# EAGLE library part CC2592 (library Controller)
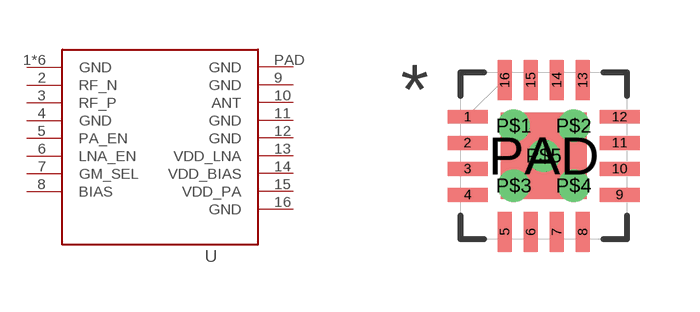
[diagram p5: symbol with the pads of QFN65P400X400X100-17N; footprint QFN65P400X400X100-17N]

Designator prefix U

## CC2592QF  [QFN65P400X400X100-17N]
1  GND  pwr
2  RF_N
3  RF_P
4  GND  pwr
5  PA_EN  in
6  LNA_EN  in
7  GM_SEL  in
8  BIAS  pas
9  GND  pwr
10  ANT
11  GND  pwr
12  GND  pwr
13  VDD_LNA  pwr
14  VDD_BIAS  pwr
15  VDD_PA  pwr
16  GND  pwr
P$1  GND  pwr
P$2  GND  pwr
P$3  GND  pwr
P$4  GND  pwr
P$5  GND  pwr
PAD  GND  pwr

## Footprint QFN65P400X400X100-17N (pad centres in mm)
This is the Device, Symbol and Footprint for the CC2592 RF Front End from Texas Instruments. (Webpage: http://www.ti.com/product/cc2592, Datasheet: http://www.ti.com/lit/ds/symlink/cc2592.pdf) Author: Dustin Richmond (10/16/2014) Reviwer 1: Reviwer 2:
smd 1 x 0.35: 1 -1.9,0.975; 2 -1.9,0.325; 3 -1.9,-0.325; 4 -1.9,-0.975; 9 1.9,-0.975; 10 1.9,-0.325; 11 1.9,0.325; 12 1.9,0.975
smd 0.35 x 1: 5 -0.975,-1.9; 6 -0.325,-1.9; 7 0.325,-1.9; 8 0.975,-1.9; 13 0.975,1.9; 14 0.325,1.9; 15 -0.325,1.9; 16 -0.975,1.9
drill 0.3 pad 0.406: P$1 -0.75,0.75; P$2 0.75,0.75; P$3 -0.75,-0.75; P$4 0.75,-0.75; P$5 0,0
smd 2.16 x 2.16: PAD 0,0